# Altium integrated library ERJ-2GEJ104X.IntLib: 1 symbol
Pins are listed as number, name and electrical type; pins without a type are passive.

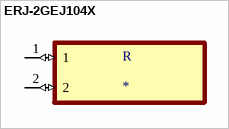
[diagram p0: symbol ERJ-2GEJ104X]

## ERJ-2GEJ104X
designator R
100 kOhms Â±5% 0.1W, 1/10W Chip Resistor 0402 (1005 Metric) Automotive AEC-Q200 Thick Film; MP: ERJ-2GEJ104X; MF: Panasonic Electronic; Package: 1005 Panasonic Electronic Components; Digi-Key_Part_Number: P100KJCT-ND; SnapEDA_Link: https://www.snapeda.com/parts/ERJ-2GEJ104X/Panasonic%20Electronic%20Components/view-part/356963/?ref=snap; Value: *
footprint RESC1005X40N
pins: 1 (io), 2 (io)